# Altium schematic symbol library Keyboard.SchLib: 4 symbols
Pins are listed as number, name and electrical type; pins without a type are passive.

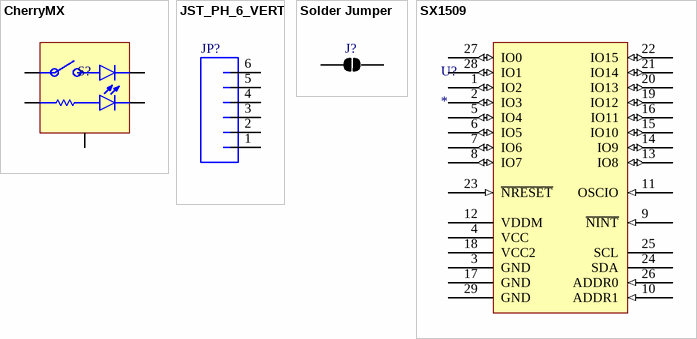
[diagram p0: symbols CherryMX to SX1509]

## CherryMX
designator S?
footprint CherryMX_Mirrorable
footprint CherryMX_2U_Mirrorable
pins: 1 GND, 2, 3, 4, 5

## JST_PH_6_VERT
designator JP?
PartNumber: B6B-PH-K-S(LF)(SN); Manufacturer: JST Sales America Inc.; PackageReference: JST-PH; Mounting Technology: Through Hole
footprint JST_PH_6_MIRRORABLE
pins: 1, 2, 3, 4, 5, 6

## Solder Jumper
designator J?
footprint SOLDER JUMPER
pins: 1, 2

## SX1509
designator U?
Supplier 1: Mouser; Supplier 2: Digi-Key; Supplier 3: Digi-Key; Supplier Part Number 1: 947-SX1509BIULTRT; Supplier Part Number 2: SX1509BIULDKR-ND; Supplier Part Number 3: SX1509BIULCT-ND
footprint QFN_UT_28
pins: 1 IO2 (io), 2 IO3 (io), 3 GND (power), 4 VCC (power), 5 IO4 (io), 6 IO5 (io), 7 IO6 (io), 8 IO7 (io), 9 ~{NINT} (in), 10 ADDR1 (in), 11 OSCIO (in), 12 VDDM (power), 13 IO8 (io), 14 IO9 (io), 15 IO10 (io), 16 IO11 (io), 17 GND (power), 18 VCC2 (power), 19 IO12 (io), 20 IO13 (io), 21 IO14 (io), 22 IO15 (io), 23 ~{NRESET} (in), 24 SDA (oc), 25 SCL (oc), 26 ADDR0 (in), 27 IO0 (io), 28 IO1 (io), 29 GND (power)